# EAGLE library part DAC8568 (library ds_ic_peripherals)
Octal-Channel, Ultralow Glitch, Voltage Output, Digital-to-Analog Converters with 2.5-V 2-ppm/°C Internal Reference
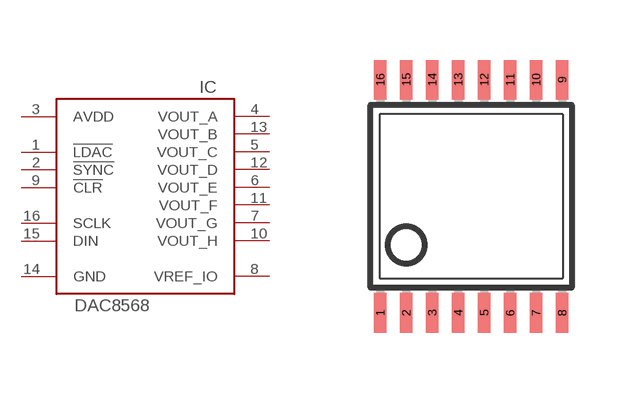
[diagram p1: symbol with the pads of TSSOP16; footprint TSSOP16]

Designator prefix IC

## DAC8568  [TSSOP16]
1  !LDAC
2  !SYNC
3  AVDD  pwr
4  VOUT_A  out
5  VOUT_C  out
6  VOUT_E  out
7  VOUT_G  out
8  VREF_IO  pwr
9  !CLR
10  VOUT_H  out
11  VOUT_F  out
12  VOUT_D  out
13  VOUT_B  out
14  GND  pwr
15  DIN
16  SCLK

## Footprint TSSOP16 (pad centres in mm)
Thin Shrink Small Outline Plastic 16 MAX3223-MAX3243.pdf
smd 0.305 x 0.991: 1 -2.275,-2.918; 2 -1.625,-2.918; 3 -0.975,-2.918; 4 -0.325,-2.918; 5 0.325,-2.918; 6 0.975,-2.918; 7 1.625,-2.918; 8 2.275,-2.918; 9 2.275,2.918; 10 1.625,2.918; 11 0.975,2.918; 12 0.325,2.918; 13 -0.325,2.918; 14 -0.975,2.918; 15 -1.625,2.918; 16 -2.275,2.918